# Altium schematic symbol library SCH - MCU - STM32 - ST MICROELECTRONICS STM32G0C1V(C-E)TX LQFP100.SchLib: 1 symbol
Pins are listed as number, name and electrical type; pins without a type are passive.

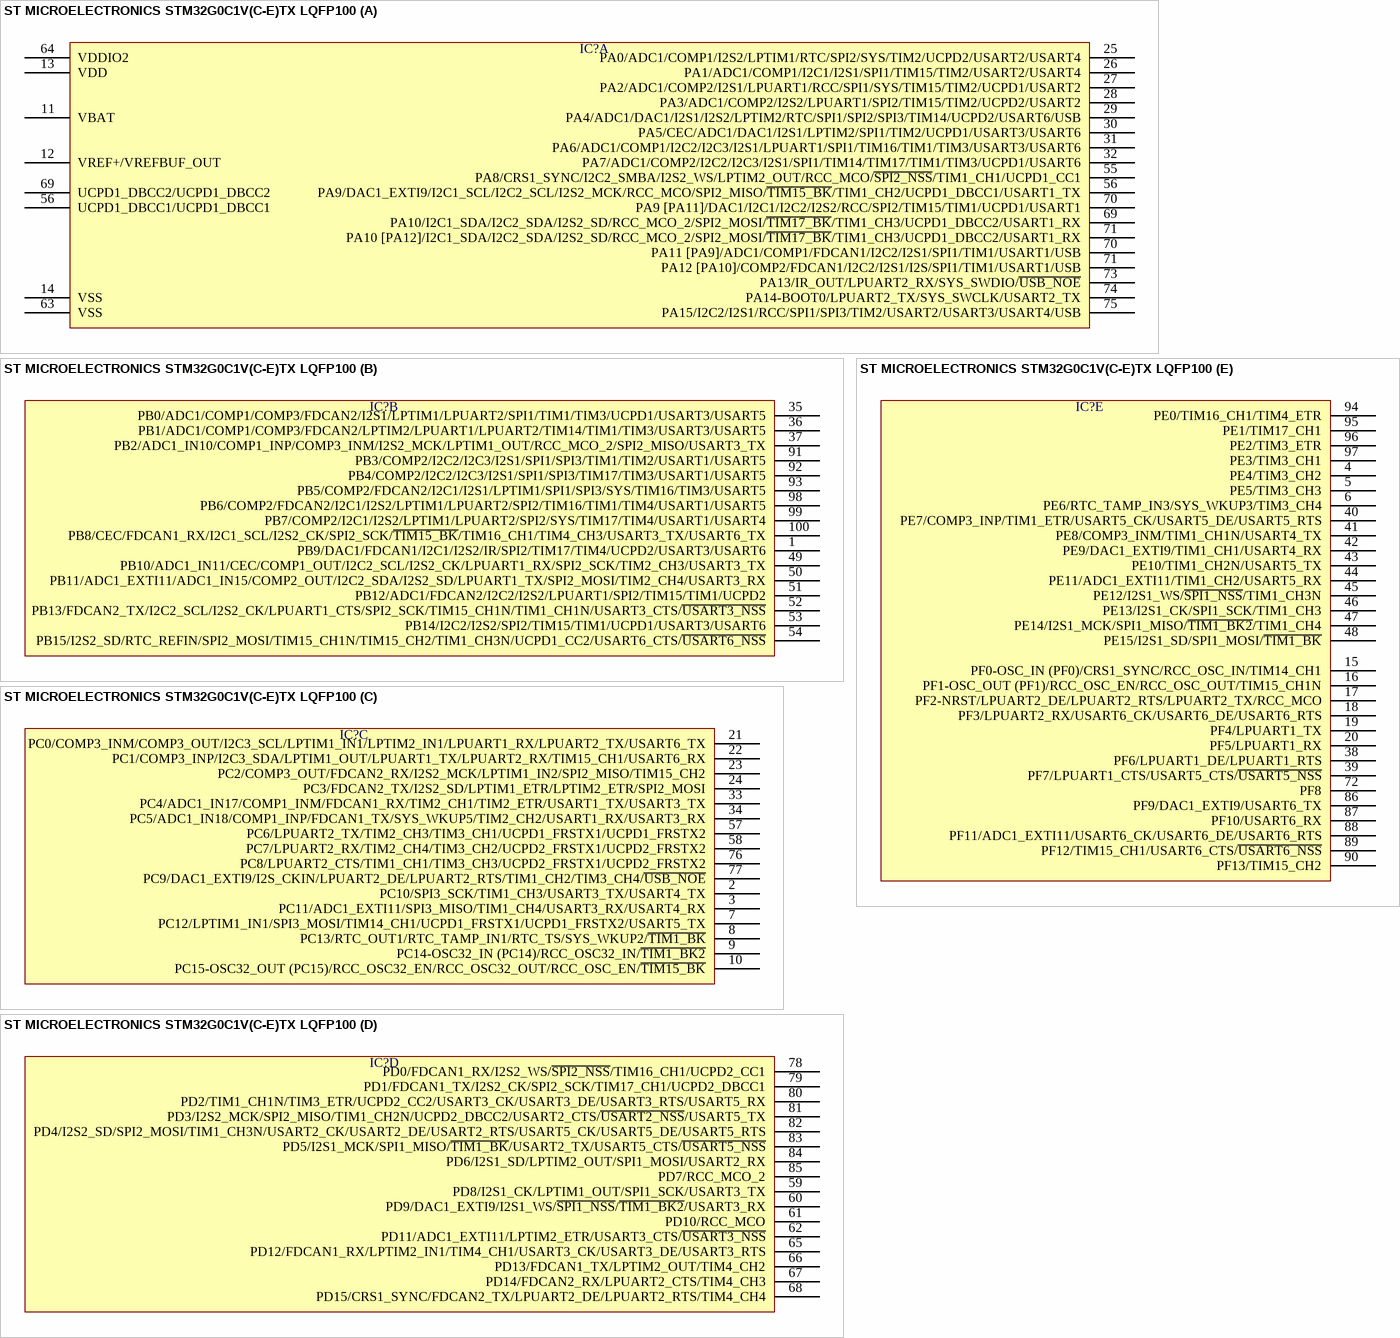
[diagram p0: symbol ST MICROELECTRONICS STM32G0C1V(C-E)TX LQFP100]

## ST MICROELECTRONICS STM32G0C1V(C-E)TX LQFP100
designator IC?  (value not drawn)
part A pins: 11 VBAT, 12 VREF+/VREFBUF_OUT, 13 VDD, 14 VSS, 25 PA0/ADC1/COMP1/I2S2/LPTIM1/RTC/SPI2/SYS/TIM2/UCPD2/USART2/USART4, 26 PA1/ADC1/COMP1/I2C1/I2S1/SPI1/TIM15/TIM2/USART2/USART4, 27 PA2/ADC1/COMP2/I2S1/LPUART1/RCC/SPI1/SYS/TIM15/TIM2/UCPD1/USART2, 28 PA3/ADC1/COMP2/I2S2/LPUART1/SPI2/TIM15/TIM2/UCPD2/USART2, 29 PA4/ADC1/DAC1/I2S1/I2S2/LPTIM2/RTC/SPI1/SPI2/SPI3/TIM14/UCPD2/USART6/USB, 30 PA5/CEC/ADC1/DAC1/I2S1/LPTIM2/SPI1/TIM2/UCPD1/USART3/USART6, 31 PA6/ADC1/COMP1/I2C2/I2C3/I2S1/LPUART1/SPI1/TIM16/TIM1/TIM3/USART3/USART6, 32 PA7/ADC1/COMP2/I2C2/I2C3/I2S1/SPI1/TIM14/TIM17/TIM1/TIM3/UCPD1/USART6, 55 PA8/CRS1_SYNC/I2C2_SMBA/I2S2_WS/LPTIM2_OUT/RCC_MCO/~{SPI2_NSS}/TIM1_CH1/UCPD1_CC1, 56 PA9/DAC1_EXTI9/I2C1_SCL/I2C2_SCL/I2S2_MCK/RCC_MCO/SPI2_MISO/~{TIM15_BK}/TIM1_CH2/UCPD1_DBCC1/USART1_TX, 56 UCPD1_DBCC1/UCPD1_DBCC1, 63 VSS, 64 VDDIO2, 69 PA10/I2C1_SDA/I2C2_SDA/I2S2_SD/RCC_MCO_2/SPI2_MOSI/~{TIM17_BK}/TIM1_CH3/UCPD1_DBCC2/USART1_RX, 69 UCPD1_DBCC2/UCPD1_DBCC2, 70 PA9 [PA11]/DAC1/I2C1/I2C2/I2S2/RCC/SPI2/TIM15/TIM1/UCPD1/USART1, 70 PA11 [PA9]/ADC1/COMP1/FDCAN1/I2C2/I2S1/SPI1/TIM1/USART1/USB, 71 PA10 [PA12]/I2C1_SDA/I2C2_SDA/I2S2_SD/RCC_MCO_2/SPI2_MOSI/~{TIM17_BK}/TIM1_CH3/UCPD1_DBCC2/USART1_RX, 71 PA12 [PA10]/COMP2/FDCAN1/I2C2/I2S1/I2S/SPI1/TIM1/USART1/USB, 73 PA13/IR_OUT/LPUART2_RX/SYS_SWDIO/~{USB_NOE}, 74 PA14-BOOT0/LPUART2_TX/SYS_SWCLK/USART2_TX, 75 PA15/I2C2/I2S1/RCC/SPI1/SPI3/TIM2/USART2/USART3/USART4/USB
part B pins: 1 PB9/DAC1/FDCAN1/I2C1/I2S2/IR/SPI2/TIM17/TIM4/UCPD2/USART3/USART6, 35 PB0/ADC1/COMP1/COMP3/FDCAN2/I2S1/LPTIM1/LPUART2/SPI1/TIM1/TIM3/UCPD1/USART3/USART5, 36 PB1/ADC1/COMP1/COMP3/FDCAN2/LPTIM2/LPUART1/LPUART2/TIM14/TIM1/TIM3/USART3/USART5, 37 PB2/ADC1_IN10/COMP1_INP/COMP3_INM/I2S2_MCK/LPTIM1_OUT/RCC_MCO_2/SPI2_MISO/USART3_TX, 49 PB10/ADC1_IN11/CEC/COMP1_OUT/I2C2_SCL/I2S2_CK/LPUART1_RX/SPI2_SCK/TIM2_CH3/USART3_TX, 50 PB11/ADC1_EXTI11/ADC1_IN15/COMP2_OUT/I2C2_SDA/I2S2_SD/LPUART1_TX/SPI2_MOSI/TIM2_CH4/USART3_RX, 51 PB12/ADC1/FDCAN2/I2C2/I2S2/LPUART1/SPI2/TIM15/TIM1/UCPD2, 52 PB13/FDCAN2_TX/I2C2_SCL/I2S2_CK/LPUART1_CTS/SPI2_SCK/TIM15_CH1N/TIM1_CH1N/USART3_CTS/~{USART3_NSS}, 53 PB14/I2C2/I2S2/SPI2/TIM15/TIM1/UCPD1/USART3/USART6, 54 PB15/I2S2_SD/RTC_REFIN/SPI2_MOSI/TIM15_CH1N/TIM15_CH2/TIM1_CH3N/UCPD1_CC2/USART6_CTS/~{USART6_NSS}, 91 PB3/COMP2/I2C2/I2C3/I2S1/SPI1/SPI3/TIM1/TIM2/USART1/USART5, 92 PB4/COMP2/I2C2/I2C3/I2S1/SPI1/SPI3/TIM17/TIM3/USART1/USART5, 93 PB5/COMP2/FDCAN2/I2C1/I2S1/LPTIM1/SPI1/SPI3/SYS/TIM16/TIM3/USART5, 98 PB6/COMP2/FDCAN2/I2C1/I2S2/LPTIM1/LPUART2/SPI2/TIM16/TIM1/TIM4/USART1/USART5, 99 PB7/COMP2/I2C1/I2S2/LPTIM1/LPUART2/SPI2/SYS/TIM17/TIM4/USART1/USART4, 100 PB8/CEC/FDCAN1_RX/I2C1_SCL/I2S2_CK/SPI2_SCK/~{TIM15_BK}/TIM16_CH1/TIM4_CH3/USART3_TX/USART6_TX
part C pins: 2 PC10/SPI3_SCK/TIM1_CH3/USART3_TX/USART4_TX, 3 PC11/ADC1_EXTI11/SPI3_MISO/TIM1_CH4/USART3_RX/USART4_RX, 7 PC12/LPTIM1_IN1/SPI3_MOSI/TIM14_CH1/UCPD1_FRSTX1/UCPD1_FRSTX2/USART5_TX, 8 PC13/RTC_OUT1/RTC_TAMP_IN1/RTC_TS/SYS_WKUP2/~{TIM1_BK}, 9 PC14-OSC32_IN (PC14)/RCC_OSC32_IN/~{TIM1_BK2}, 10 PC15-OSC32_OUT (PC15)/RCC_OSC32_EN/RCC_OSC32_OUT/RCC_OSC_EN/~{TIM15_BK}, 21 PC0/COMP3_INM/COMP3_OUT/I2C3_SCL/LPTIM1_IN1/LPTIM2_IN1/LPUART1_RX/LPUART2_TX/USART6_TX, 22 PC1/COMP3_INP/I2C3_SDA/LPTIM1_OUT/LPUART1_TX/LPUART2_RX/TIM15_CH1/USART6_RX, 23 PC2/COMP3_OUT/FDCAN2_RX/I2S2_MCK/LPTIM1_IN2/SPI2_MISO/TIM15_CH2, 24 PC3/FDCAN2_TX/I2S2_SD/LPTIM1_ETR/LPTIM2_ETR/SPI2_MOSI, 33 PC4/ADC1_IN17/COMP1_INM/FDCAN1_RX/TIM2_CH1/TIM2_ETR/USART1_TX/USART3_TX, 34 PC5/ADC1_IN18/COMP1_INP/FDCAN1_TX/SYS_WKUP5/TIM2_CH2/USART1_RX/USART3_RX, 57 PC6/LPUART2_TX/TIM2_CH3/TIM3_CH1/UCPD1_FRSTX1/UCPD1_FRSTX2, 58 PC7/LPUART2_RX/TIM2_CH4/TIM3_CH2/UCPD2_FRSTX1/UCPD2_FRSTX2, 76 PC8/LPUART2_CTS/TIM1_CH1/TIM3_CH3/UCPD2_FRSTX1/UCPD2_FRSTX2, 77 PC9/DAC1_EXTI9/I2S_CKIN/LPUART2_DE/LPUART2_RTS/TIM1_CH2/TIM3_CH4/~{USB_NOE}
part D pins: 59 PD8/I2S1_CK/LPTIM1_OUT/SPI1_SCK/USART3_TX, 60 PD9/DAC1_EXTI9/I2S1_WS/~{SPI1_NSS}/~{TIM1_BK2}/USART3_RX, 61 PD10/RCC_MCO, 62 PD11/ADC1_EXTI11/LPTIM2_ETR/USART3_CTS/~{USART3_NSS}, 65 PD12/FDCAN1_RX/LPTIM2_IN1/TIM4_CH1/USART3_CK/USART3_DE/USART3_RTS, 66 PD13/FDCAN1_TX/LPTIM2_OUT/TIM4_CH2, 67 PD14/FDCAN2_RX/LPUART2_CTS/TIM4_CH3, 68 PD15/CRS1_SYNC/FDCAN2_TX/LPUART2_DE/LPUART2_RTS/TIM4_CH4, 78 PD0/FDCAN1_RX/I2S2_WS/~{SPI2_NSS}/TIM16_CH1/UCPD2_CC1, 79 PD1/FDCAN1_TX/I2S2_CK/SPI2_SCK/TIM17_CH1/UCPD2_DBCC1, 80 PD2/TIM1_CH1N/TIM3_ETR/UCPD2_CC2/USART3_CK/USART3_DE/USART3_RTS/USART5_RX, 81 PD3/I2S2_MCK/SPI2_MISO/TIM1_CH2N/UCPD2_DBCC2/USART2_CTS/~{USART2_NSS}/USART5_TX, 82 PD4/I2S2_SD/SPI2_MOSI/TIM1_CH3N/USART2_CK/USART2_DE/USART2_RTS/USART5_CK/USART5_DE/USART5_RTS, 83 PD5/I2S1_MCK/SPI1_MISO/~{TIM1_BK}/USART2_TX/USART5_CTS/~{USART5_NSS}, 84 PD6/I2S1_SD/LPTIM2_OUT/SPI1_MOSI/USART2_RX, 85 PD7/RCC_MCO_2
part E pins: 4 PE4/TIM3_CH2, 5 PE5/TIM3_CH3, 6 PE6/RTC_TAMP_IN3/SYS_WKUP3/TIM3_CH4, 15 PF0-OSC_IN (PF0)/CRS1_SYNC/RCC_OSC_IN/TIM14_CH1, 16 PF1-OSC_OUT (PF1)/RCC_OSC_EN/RCC_OSC_OUT/TIM15_CH1N, 17 PF2-NRST/LPUART2_DE/LPUART2_RTS/LPUART2_TX/RCC_MCO, 18 PF3/LPUART2_RX/USART6_CK/USART6_DE/USART6_RTS, 19 PF4/LPUART1_TX, 20 PF5/LPUART1_RX, 38 PF6/LPUART1_DE/LPUART1_RTS, 39 PF7/LPUART1_CTS/USART5_CTS/~{USART5_NSS}, 40 PE7/COMP3_INP/TIM1_ETR/USART5_CK/USART5_DE/USART5_RTS, 41 PE8/COMP3_INM/TIM1_CH1N/USART4_TX, 42 PE9/DAC1_EXTI9/TIM1_CH1/USART4_RX, 43 PE10/TIM1_CH2N/USART5_TX, 44 PE11/ADC1_EXTI11/TIM1_CH2/USART5_RX, 45 PE12/I2S1_WS/~{SPI1_NSS}/TIM1_CH3N, 46 PE13/I2S1_CK/SPI1_SCK/TIM1_CH3, 47 PE14/I2S1_MCK/SPI1_MISO/~{TIM1_BK2}/TIM1_CH4, 48 PE15/I2S1_SD/SPI1_MOSI/~{TIM1_BK}, 72 PF8, 86 PF9/DAC1_EXTI9/USART6_TX, 87 PF10/USART6_RX, 88 PF11/ADC1_EXTI11/USART6_CK/USART6_DE/USART6_RTS, 89 PF12/TIM15_CH1/USART6_CTS/~{USART6_NSS}, 90 PF13/TIM15_CH2, 94 PE0/TIM16_CH1/TIM4_ETR, 95 PE1/TIM17_CH1, 96 PE2/TIM3_ETR, 97 PE3/TIM3_CH1